# Altium integrated library Altium_WRIS-KSKE (rev22a).IntLib: 17 symbols
Pins are listed as number, name and electrical type; pins without a type are passive.

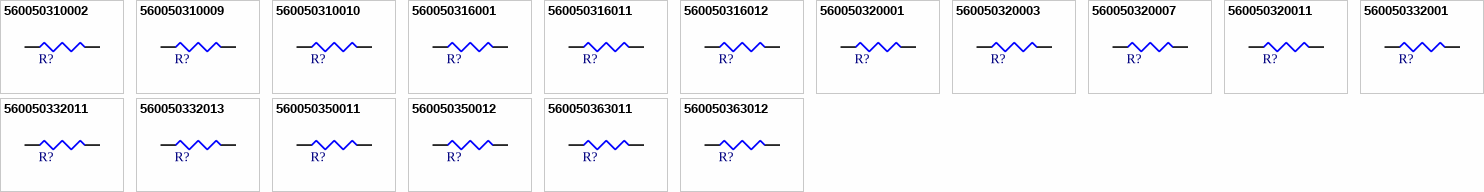
[diagram p0: symbols 560050310002 to 560050363012]

## 560050310002
designator R?, comment 0.15Ω  (value not drawn)
WRIS-KSKE Thick Film Resistor, SMT, size 0402, 0.125W, 0.15Ω, +/-1%; Manufacturer Part Number: 560050310002; Manufacturer: Wurth Elektronik; Case/Size Code: 0402; Rated Current: 0.91A; Technical Reference: KE0402R150F108IAATH0000; Temperature Coefficient of Resistance: 300ppm/°C; Category: Thick Film Resistors; Match Code: WRIS-KSKE; ComponentLink1Description: Website Link; ComponentLink1URL: https://www.we-online.com/redexpert/article/560050310002?ad; ComponentLink2Description: Datasheet Link; ComponentLink2URL: https://www.we-online.com/redexpert/spec/560050310002?ad; Mount: Surface Mount; Operating Temperature Max: 155°C; Operating Temperature Min: -55°C; Packaging: Tape and Reel; Length: 1mm; Width: 0.5mm; Height: 0.35mm; Rated Power: 0.125W; Resistance: 0.15Ω; Resistance Tolerance: +/-1%
footprint WRIS-KSKE_0402_L1W0.5H0.35
pins: 1, 2

## 560050310009
designator R?, comment 10Ω  (value not drawn)
WRIS-KSKE Thick Film Resistor, SMT, size 0402, 0.125W, 10Ω, +/-1%; Manufacturer Part Number: 560050310009; Manufacturer: Wurth Elektronik; Case/Size Code: 0402; Rated Current: 0.11A; Technical Reference: KE04020100F108KAATH0000; Temperature Coefficient of Resistance: +/-100ppm/°C; Category: Thick Film Resistors; Match Code: WRIS-KSKE; ComponentLink1Description: Website Link; ComponentLink1URL: https://www.we-online.com/redexpert/article/560050310009?ad; ComponentLink2Description: Datasheet Link; ComponentLink2URL: https://www.we-online.com/redexpert/spec/560050310009?ad; Mount: Surface Mount; Operating Temperature Max: 155°C; Operating Temperature Min: -55°C; Packaging: Tape and Reel; Length: 1mm; Width: 0.5mm; Height: 0.35mm; Rated Power: 0.125W; Resistance: 10Ω; Resistance Tolerance: +/-1%
footprint WRIS-KSKE_0402_L1W0.5H0.35
pins: 1, 2

## 560050310010
designator R?, comment 0.5Ω  (value not drawn)
WRIS-KSKE Thick Film Resistor, SMT, size 0402, 0.125W, 0.5Ω, +/-1%; Manufacturer Part Number: 560050310010; Manufacturer: Wurth Elektronik; Case/Size Code: 0402; Rated Current: 0.5A; Technical Reference: KE0402R500F108HAATH0000; Temperature Coefficient of Resistance: 200ppm/°C; Category: Thick Film Resistors; Match Code: WRIS-KSKE; ComponentLink1Description: Website Link; ComponentLink1URL: https://www.we-online.com/redexpert/article/560050310010?ad; ComponentLink2Description: Datasheet Link; ComponentLink2URL: https://www.we-online.com/redexpert/spec/560050310010?ad; Mount: Surface Mount; Operating Temperature Max: 155°C; Operating Temperature Min: -55°C; Packaging: Tape and Reel; Length: 1mm; Width: 0.5mm; Height: 0.35mm; Rated Power: 0.125W; Resistance: 0.5Ω; Resistance Tolerance: +/-1%
footprint WRIS-KSKE_0402_L1W0.5H0.35
pins: 1, 2

## 560050316001
designator R?, comment 0.1Ω  (value not drawn)
WRIS-KSKE Thick Film Resistor, SMT, size 0603, 0.25W, 0.1Ω, +/-1%; Manufacturer Part Number: 560050316001; Manufacturer: Wurth Elektronik; Case/Size Code: 0603; Rated Current: 1.58A; Technical Reference: KE0603R100F104LAATP0000; Temperature Coefficient of Resistance: 250ppm/°C; Category: Thick Film Resistors; Match Code: WRIS-KSKE; ComponentLink1Description: Website Link; ComponentLink1URL: https://www.we-online.com/redexpert/article/560050316001?ad; ComponentLink2Description: Datasheet Link; ComponentLink2URL: https://www.we-online.com/redexpert/spec/560050316001?ad; Mount: Surface Mount; Operating Temperature Max: 155°C; Operating Temperature Min: -55°C; Packaging: Tape and Reel; Length: 1.6mm; Width: 0.8mm; Height: 0.45mm; Rated Power: 0.25W; Resistance: 0.1Ω; Resistance Tolerance: +/-1%
footprint WRIS-KSKE_0603_L1.6W0.8H0.45
pins: 1, 2

## 560050316011
designator R?, comment 0.5Ω  (value not drawn)
WRIS-KSKE Thick Film Resistor, SMT, size 0603, 0.25W, 0.5Ω, +/-1%; Manufacturer Part Number: 560050316011; Manufacturer: Wurth Elektronik; Case/Size Code: 0603; Rated Current: 0.7A; Technical Reference: KE0603R500F104KAATP0000; Temperature Coefficient of Resistance: +/-100ppm/°C; Category: Thick Film Resistors; Match Code: WRIS-KSKE; ComponentLink1Description: Website Link; ComponentLink1URL: https://www.we-online.com/redexpert/article/560050316011?ad; ComponentLink2Description: Datasheet Link; ComponentLink2URL: https://www.we-online.com/redexpert/spec/560050316011?ad; Mount: Surface Mount; Operating Temperature Max: 155°C; Operating Temperature Min: -55°C; Packaging: Tape and Reel; Length: 1.6mm; Width: 0.8mm; Height: 0.45mm; Rated Power: 0.25W; Resistance: 0.5Ω; Resistance Tolerance: +/-1%
footprint WRIS-KSKE_0603_L1.6W0.8H0.45
pins: 1, 2

## 560050316012
designator R?, comment 10Ω  (value not drawn)
WRIS-KSKE Thick Film Resistor, SMT, size 0603, 0.25W, 10Ω, +/-1%; Manufacturer Part Number: 560050316012; Manufacturer: Wurth Elektronik; Case/Size Code: 0603; Rated Current: 0.15A; Technical Reference: KE06030100F104KAATP0000; Temperature Coefficient of Resistance: +/-100ppm/°C; Category: Thick Film Resistors; Match Code: WRIS-KSKE; ComponentLink1Description: Website Link; ComponentLink1URL: https://www.we-online.com/redexpert/article/560050316012?ad; ComponentLink2Description: Datasheet Link; ComponentLink2URL: https://www.we-online.com/redexpert/spec/560050316012?ad; Mount: Surface Mount; Operating Temperature Max: 155°C; Operating Temperature Min: -55°C; Packaging: Tape and Reel; Length: 1.6mm; Width: 0.8mm; Height: 0.45mm; Rated Power: 0.25W; Resistance: 10Ω; Resistance Tolerance: +/-1%
footprint WRIS-KSKE_0603_L1.6W0.8H0.45
pins: 1, 2

## 560050320001
designator R?, comment 0.1Ω  (value not drawn)
WRIS-KSKE Thick Film Resistor, SMT, size 0805, 0.33W, 0.1Ω, +/-1%; Manufacturer Part Number: 560050320001; Manufacturer: Wurth Elektronik; Case/Size Code: 0805; Rated Current: 1.81A; Technical Reference: KE0805R100F103LAATP0000; Temperature Coefficient of Resistance: 250ppm/°C; Category: Thick Film Resistors; Match Code: WRIS-KSKE; ComponentLink1Description: Website Link; ComponentLink1URL: https://www.we-online.com/redexpert/article/560050320001?ad; ComponentLink2Description: Datasheet Link; ComponentLink2URL: https://www.we-online.com/redexpert/spec/560050320001?ad; Mount: Surface Mount; Operating Temperature Max: 155°C; Operating Temperature Min: -55°C; Packaging: Tape and Reel; Length: 2mm; Width: 1.25mm; Height: 0.6mm; Rated Power: 0.33W; Resistance: 0.1Ω; Resistance Tolerance: +/-1%
footprint WRIS-KSKE_0805_L2W1.25H0.6
pins: 1, 2

## 560050320003
designator R?, comment 0.27Ω  (value not drawn)
WRIS-KSKE Thick Film Resistor, SMT, size 0805, 0.33W, 0.27Ω, +/-1%; Manufacturer Part Number: 560050320003; Manufacturer: Wurth Elektronik; Case/Size Code: 0805; Rated Current: 1.1A; Technical Reference: KE0805R270F103HAATP0000; Temperature Coefficient of Resistance: 200ppm/°C; Category: Thick Film Resistors; Match Code: WRIS-KSKE; ComponentLink1Description: Website Link; ComponentLink1URL: https://www.we-online.com/redexpert/article/560050320003?ad; ComponentLink2Description: Datasheet Link; ComponentLink2URL: https://www.we-online.com/redexpert/spec/560050320003?ad; Mount: Surface Mount; Operating Temperature Max: 155°C; Operating Temperature Min: -55°C; Packaging: Tape and Reel; Length: 2mm; Width: 1.25mm; Height: 0.6mm; Rated Power: 0.33W; Resistance: 0.27Ω; Resistance Tolerance: +/-1%
footprint WRIS-KSKE_0805_L2W1.25H0.6
pins: 1, 2

## 560050320007
designator R?, comment 2.2Ω  (value not drawn)
WRIS-KSKE Thick Film Resistor, SMT, size 0805, 0.33W, 2.2Ω, +/-1%; Manufacturer Part Number: 560050320007; Manufacturer: Wurth Elektronik; Case/Size Code: 0805; Rated Current: 0.38A; Technical Reference: KE08052R20F103KAATP0000; Temperature Coefficient of Resistance: +/-100ppm/°C; Category: Thick Film Resistors; Match Code: WRIS-KSKE; ComponentLink1Description: Website Link; ComponentLink1URL: https://www.we-online.com/redexpert/article/560050320007?ad; ComponentLink2Description: Datasheet Link; ComponentLink2URL: https://www.we-online.com/redexpert/spec/560050320007?ad; Mount: Surface Mount; Operating Temperature Max: 155°C; Operating Temperature Min: -55°C; Packaging: Tape and Reel; Length: 2mm; Width: 1.25mm; Height: 0.6mm; Rated Power: 0.33W; Resistance: 2.2Ω; Resistance Tolerance: +/-1%
footprint WRIS-KSKE_0805_L2W1.25H0.6
pins: 1, 2

## 560050320011
designator R?, comment 1Ω  (value not drawn)
WRIS-KSKE Thick Film Resistor, SMT, size 0805, 0.33W, 1Ω, +/-1%; Manufacturer Part Number: 560050320011; Manufacturer: Wurth Elektronik; Case/Size Code: 0805; Rated Current: 0.57A; Technical Reference: KE08051R00F103KAATP0000; Temperature Coefficient of Resistance: +/-100ppm/°C; Category: Thick Film Resistors; Match Code: WRIS-KSKE; ComponentLink1Description: Website Link; ComponentLink1URL: https://www.we-online.com/redexpert/article/560050320011?ad; ComponentLink2Description: Datasheet Link; ComponentLink2URL: https://www.we-online.com/redexpert/spec/560050320011?ad; Mount: Surface Mount; Operating Temperature Max: 155°C; Operating Temperature Min: -55°C; Packaging: Tape and Reel; Length: 2mm; Width: 1.25mm; Height: 0.6mm; Rated Power: 0.33W; Resistance: 1Ω; Resistance Tolerance: +/-1%
footprint WRIS-KSKE_0805_L2W1.25H0.6
pins: 1, 2

## 560050332001
designator R?, comment 0.05Ω  (value not drawn)
WRIS-KSKE Thick Film Resistor, SMT, size 1206, 0.5W, 0.05Ω, +/-1%; Manufacturer Part Number: 560050332001; Manufacturer: Wurth Elektronik; Case/Size Code: 1206; Rated Current: 3.16A; Technical Reference: KE1206R050F102LAATP0000; Temperature Coefficient of Resistance: 250ppm/°C; Category: Thick Film Resistors; Match Code: WRIS-KSKE; ComponentLink1Description: Website Link; ComponentLink1URL: https://www.we-online.com/redexpert/article/560050332001?ad; ComponentLink2Description: Datasheet Link; ComponentLink2URL: https://www.we-online.com/redexpert/spec/560050332001?ad; Mount: Surface Mount; Operating Temperature Max: 155°C; Operating Temperature Min: -55°C; Packaging: Tape and Reel; Length: 3.1mm; Width: 1.6mm; Height: 0.6mm; Rated Power: 0.5W; Resistance: 0.05Ω; Resistance Tolerance: +/-1%
footprint WRIS-KSKE_1206_L3.1W1.6H0.6
pins: 1, 2

## 560050332011
designator R?, comment 3.3Ω  (value not drawn)
WRIS-KSKE Thick Film Resistor, SMT, size 1206, 0.5W, 3.3Ω, +/-1%; Manufacturer Part Number: 560050332011; Manufacturer: Wurth Elektronik; Case/Size Code: 1206; Rated Current: 0.38A; Technical Reference: KE12063R30F102KAATP0000; Temperature Coefficient of Resistance: +/-100ppm/°C; Category: Thick Film Resistors; Match Code: WRIS-KSKE; ComponentLink1Description: Website Link; ComponentLink1URL: https://www.we-online.com/redexpert/article/560050332011?ad; ComponentLink2Description: Datasheet Link; ComponentLink2URL: https://www.we-online.com/redexpert/spec/560050332011?ad; Mount: Surface Mount; Operating Temperature Max: 155°C; Operating Temperature Min: -55°C; Packaging: Tape and Reel; Length: 3.1mm; Width: 1.6mm; Height: 0.6mm; Rated Power: 0.5W; Resistance: 3.3Ω; Resistance Tolerance: +/-1%
footprint WRIS-KSKE_1206_L3.1W1.6H0.6
pins: 1, 2

## 560050332013
designator R?, comment 0.5Ω  (value not drawn)
WRIS-KSKE Thick Film Resistor, SMT, size 1206, 0.5W, 0.5Ω, +/-1%; Manufacturer Part Number: 560050332013; Manufacturer: Wurth Elektronik; Case/Size Code: 1206; Rated Current: 1A; Technical Reference: KE1206R500F102KAATP0000; Temperature Coefficient of Resistance: +/-100ppm/°C; Category: Thick Film Resistors; Match Code: WRIS-KSKE; ComponentLink1Description: Website Link; ComponentLink1URL: https://www.we-online.com/redexpert/article/560050332013?ad; ComponentLink2Description: Datasheet Link; ComponentLink2URL: https://www.we-online.com/redexpert/spec/560050332013?ad; Mount: Surface Mount; Operating Temperature Max: 155°C; Operating Temperature Min: -55°C; Packaging: Tape and Reel; Length: 3.1mm; Width: 1.6mm; Height: 0.6mm; Rated Power: 0.5W; Resistance: 0.5Ω; Resistance Tolerance: +/-1%
footprint WRIS-KSKE_1206_L3.1W1.6H0.6
pins: 1, 2

## 560050350011
designator R?, comment 0.2Ω  (value not drawn)
WRIS-KSKE Thick Film Resistor, SMT, size 2010, 0.75W, 0.2Ω, +/-1%; Manufacturer Part Number: 560050350011; Manufacturer: Wurth Elektronik; Case/Size Code: 2010; Rated Current: 1.93A; Technical Reference: KE2010R200F304HAATE0000; Temperature Coefficient of Resistance: 200ppm/°C; Category: Thick Film Resistors; Match Code: WRIS-KSKE; ComponentLink1Description: Website Link; ComponentLink1URL: https://www.we-online.com/redexpert/article/560050350011?ad; ComponentLink2Description: Datasheet Link; ComponentLink2URL: https://www.we-online.com/redexpert/spec/560050350011?ad; Mount: Surface Mount; Operating Temperature Max: 155°C; Operating Temperature Min: -55°C; Packaging: Tape and Reel; Length: 5mm; Width: 2.5mm; Height: 0.6mm; Rated Power: 0.75W; Resistance: 0.2Ω; Resistance Tolerance: +/-1%
footprint WRIS-KSKE_2010_L5W2.5H0.6
pins: 1, 2

## 560050350012
designator R?, comment 0.39Ω  (value not drawn)
WRIS-KSKE Thick Film Resistor, SMT, size 2010, 0.75W, 0.39Ω, +/-1%; Manufacturer Part Number: 560050350012; Manufacturer: Wurth Elektronik; Case/Size Code: 2010; Rated Current: 1.38A; Technical Reference: KE2010R390F304HAATE0000; Temperature Coefficient of Resistance: 200ppm/°C; Category: Thick Film Resistors; Match Code: WRIS-KSKE; ComponentLink1Description: Website Link; ComponentLink1URL: https://www.we-online.com/redexpert/article/560050350012?ad; ComponentLink2Description: Datasheet Link; ComponentLink2URL: https://www.we-online.com/redexpert/spec/560050350012?ad; Mount: Surface Mount; Operating Temperature Max: 155°C; Operating Temperature Min: -55°C; Packaging: Tape and Reel; Length: 5mm; Width: 2.5mm; Height: 0.6mm; Rated Power: 0.75W; Resistance: 0.39Ω; Resistance Tolerance: +/-1%
footprint WRIS-KSKE_2010_L5W2.5H0.6
pins: 1, 2

## 560050363011
designator R?, comment 0.5Ω  (value not drawn)
WRIS-KSKE Thick Film Resistor, SMT, size 2512, 1W, 0.5Ω, +/-1%; Manufacturer Part Number: 560050363011; Manufacturer: Wurth Elektronik; Case/Size Code: 2512; Rated Current: 1.41A; Technical Reference: KE2512R500F101KAATE0000; Temperature Coefficient of Resistance: +/-100ppm/°C; Category: Thick Film Resistors; Match Code: WRIS-KSKE; ComponentLink1Description: Website Link; ComponentLink1URL: https://www.we-online.com/redexpert/article/560050363011?ad; ComponentLink2Description: Datasheet Link; ComponentLink2URL: https://www.we-online.com/redexpert/spec/560050363011?ad; Mount: Surface Mount; Operating Temperature Max: 155°C; Operating Temperature Min: -55°C; Packaging: Tape and Reel; Length: 6.3mm; Width: 3.2mm; Height: 0.6mm; Rated Power: 1W; Resistance: 0.5Ω; Resistance Tolerance: +/-1%
footprint WRIS-KSKE_2512_L6.3W3.2H0.6
pins: 1, 2

## 560050363012
designator R?, comment 3.3Ω  (value not drawn)
WRIS-KSKE Thick Film Resistor, SMT, size 2512, 1W, 3.3Ω, +/-1%; Manufacturer Part Number: 560050363012; Manufacturer: Wurth Elektronik; Case/Size Code: 2512; Rated Current: 0.55A; Technical Reference: KE25123R30F101KAATE0000; Temperature Coefficient of Resistance: +/-100ppm/°C; Category: Thick Film Resistors; Match Code: WRIS-KSKE; ComponentLink1Description: Website Link; ComponentLink1URL: https://www.we-online.com/redexpert/article/560050363012?ad; ComponentLink2Description: Datasheet Link; ComponentLink2URL: https://www.we-online.com/redexpert/spec/560050363012?ad; Mount: Surface Mount; Operating Temperature Max: 155°C; Operating Temperature Min: -55°C; Packaging: Tape and Reel; Length: 6.3mm; Width: 3.2mm; Height: 0.6mm; Rated Power: 1W; Resistance: 3.3Ω; Resistance Tolerance: +/-1%
footprint WRIS-KSKE_2512_L6.3W3.2H0.6
pins: 1, 2